# EAGLE library part MAGJACK (library Jim)
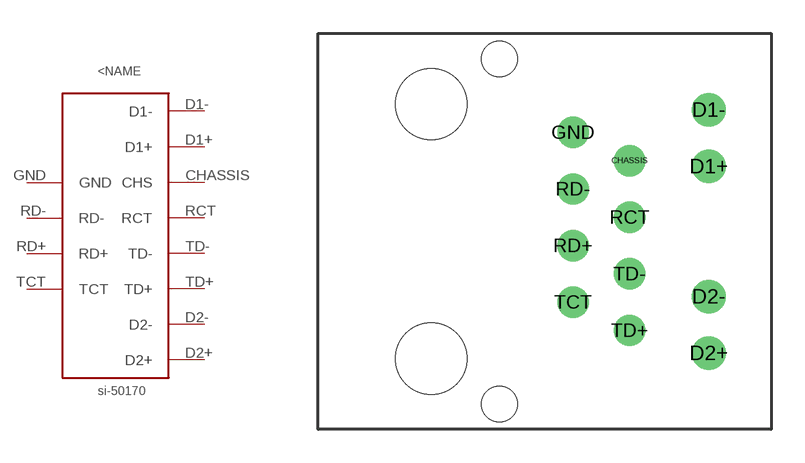
[diagram p15: symbol with the pads of MAGJACK; footprint MAGJACK]

Designator prefix -

## MAGJACK  [MAGJACK]
CHASSIS  CHS  pwr
D1+  D1+
D1-  D1-
D2+  D2+
D2-  D2-
GND  GND  pwr
RCT  RCT
RD+  RD+  out
RD-  RD-  out
TCT  TCT
TD+  TD+  in
TD-  TD-  in

## Footprint MAGJACK (pad centres in mm)
drill 0.9 round: CHASSIS 8.89,3.175; GND 6.35,4.445; RCT 8.89,0.635; RD+ 6.35,-0.635; RD- 6.35,1.905; TCT 6.35,-3.175; TD+ 8.89,-4.445; TD- 8.89,-1.905
drill 1 round: D1+ 12.446,2.921; D1- 12.446,5.461; D2+ 12.446,-5.461; D2- 12.446,-2.921
hole 3.2 at 0,5.715
hole 3.2 at 0,-5.715
hole 1.6 at 3.048,7.747
hole 1.6 at 3.048,-7.747